# Altium footprint library Termal controller.PcbLib: 39 footprints (part 2 of 3)
Each footprint in its own frame and in the unit in brackets; x right, y up, seen from the top. Pads: shape width x height; smd on the part's side, far side on the other; paste and mask are expansions set on the pad; w line width, h text height; cw(c..) or ccw(c..) is an arc to the next point about the centre after c.
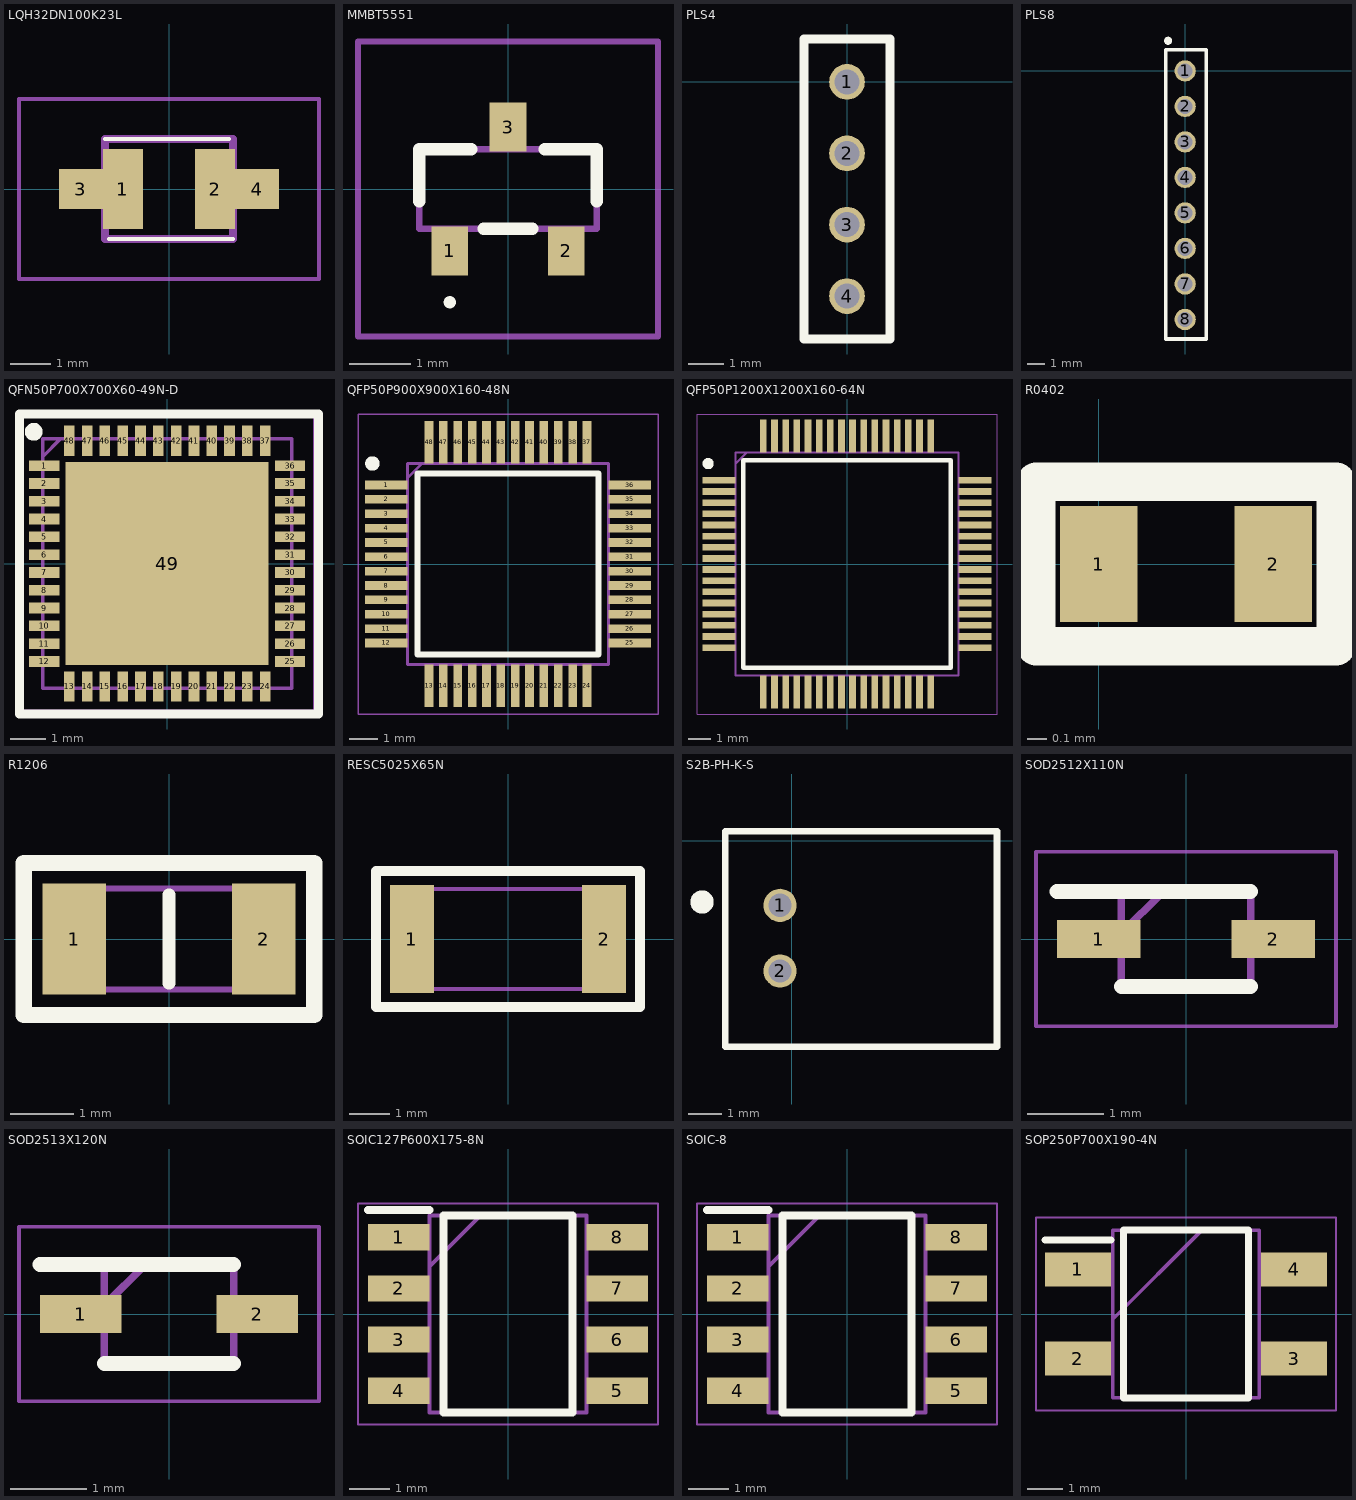
[diagram p1: the footprints below, top view; thin cyan lines are the x and y axes]

## LQH32DN100K23L [mm]
pads (4):
  rect 1x2 smd: 1(-1.15,0) 2(1.15,0)
  rect 1.1x1 smd: 3(-2.2,0) 4(2.2,0)
Top Overlay:
  lines w0.1: -1.6,1.25 1.5,1.25 ; -1.5,-1.25 1.6,-1.25
Mechanical 13:
  lines w0.2: -1.6,-1.25 -1.6,1.25 1.6,1.25 1.6,-1.25 -1.6,-1.25
Mechanical 15:
  lines w0.1: -3.75,-2.25 -3.75,2.25 3.75,2.25 3.75,-2.25 -3.75,-2.25
3D body "LQH32MN151J23L.stp": height 2.2, standoff 0, extent -1.6,-1.25 1.6,1.25

## MMBT5551 [mm]
pads (3):
  rect 0.6x0.8 smd: 1(-0.95,-1.01) 2(0.95,-1.01) 3(0,1.01)
Top Overlay:
  lines w0.1: -0.95,-1.9 ccw(c-0.95,-1.85) -0.95,-1.8 ccw(c-0.95,-1.85) -0.95,-1.9
  lines w0.2: -1.45,-0.2 -1.45,0.65 -0.6,0.65 ; -0.4,-0.65 0.4,-0.65 ; 0.6,0.65 1.45,0.65 1.45,-0.2
Mechanical 13:
  lines w0.1: -1.45,-0.65 -1.45,0.65 1.45,0.65 1.45,-0.65 -1.45,-0.65
Mechanical 15:
  lines w0.1: -2.45,-2.41 -2.45,2.41 2.45,2.41 2.45,-2.41 -2.45,-2.41
3D body "MMBT5551.stp": height 1.25, standoff 0, extent -1.45,-1.35 1.45,1.35

## PLS4 [mm]
pads (4):
  round 1 hole 0.7: 1(0,0) 2(0,-2) 3(0,-4) 4(0,-6)
Top Overlay:
  lines w0.254: -1.2,-7.2 1.2,-7.2 1.2,1.2 -1.2,1.2 -1.2,-7.2
3D body "User Library-pls2-4_asm.STEP": height 6, standoff -2.8, extent -1,-7 1,1

## PLS8 [mm]
height 0.6
pads (8):
  round 1.2 hole 0.85: 1(0,0) 2(0,-2) 3(0,-4) 4(0,-6) 5(0,-8) 6(0,-10) 7(0,-12) 8(0,-14)
Top Overlay:
  lines w0.2: -1.1,-15.1 -1.1,1.2 1.2,1.2 1.2,-15.1 -1.1,-15.1
  lines w0.254: -0.862,1.718 ccw(c-0.96,1.697) -0.86,1.697
3D body "User Library-pls2-8_asm.STEP": height 6.3, standoff -2.5, extent -0.95,-14.95 1.05,1.05

## QFN50P700X700X60-49N-D [mm]
pads (49):
  rect 0.85x0.3 smd: 1(-3.45,2.75) 2(-3.45,2.25) 3(-3.45,1.75) 4(-3.45,1.25) 5(-3.45,0.75) 6(-3.45,0.25) 7(-3.45,-0.25) 8(-3.45,-0.75) 9(-3.45,-1.25) 10(-3.45,-1.75) 11(-3.45,-2.25) 12(-3.45,-2.75) 25(3.45,-2.75) 26(3.45,-2.25) 27(3.45,-1.75) 28(3.45,-1.25) 29(3.45,-0.75) 30(3.45,-0.25) 31(3.45,0.25) 32(3.45,0.75) 33(3.45,1.25) 34(3.45,1.75) 35(3.45,2.25) 36(3.45,2.75)
  rect 0.3x0.85 smd: 13(-2.75,-3.45) 14(-2.25,-3.45) 15(-1.75,-3.45) 16(-1.25,-3.45) 17(-0.75,-3.45) 18(-0.25,-3.45) 19(0.25,-3.45) 20(0.75,-3.45) 21(1.25,-3.45) 22(1.75,-3.45) 23(2.25,-3.45) 24(2.75,-3.45) 37(2.75,3.45) 38(2.25,3.45) 39(1.75,3.45) 40(1.25,3.45) 41(0.75,3.45) 42(0.25,3.45) 43(-0.25,3.45) 44(-0.75,3.45) 45(-1.25,3.45) 46(-1.75,3.45) 47(-2.25,3.45) 48(-2.75,3.45)
  rect 5.7x5.7 smd: 49(0,0)
Top Overlay:
  circle w0.25: c-3.75,3.7 r0.125
  lines w0.254: -4.15,-4.225 4.25,-4.225 4.25,4.2 -4.15,4.2 -4.15,-4.225
Mechanical 13:
  lines w0.1: -3.5,3 -3,3.5 ; -3.5,-3.5 -3.5,3.5 3.5,3.5 3.5,-3.5 -3.5,-3.5
Mechanical 15:
  lines w0.05: -4.125,-4.125 -4.125,4.125 4.125,4.125 4.125,-4.125 -4.125,-4.125
3D body "STM32F411CEU6.stp": height 0.6, standoff 0, extent -3.55,-3.55 3.55,3.55

## QFP50P900X900X160-48N [mm]
pads (48):
  rect 1.475x0.3 smd: 1(-4.238,2.75) 2(-4.238,2.25) 3(-4.238,1.75) 4(-4.238,1.25) 5(-4.238,0.75) 6(-4.238,0.25) 7(-4.238,-0.25) 8(-4.238,-0.75) 9(-4.238,-1.25) 10(-4.238,-1.75) 11(-4.238,-2.25) 12(-4.238,-2.75) 25(4.238,-2.75) 26(4.238,-2.25) 27(4.238,-1.75) 28(4.238,-1.25) 29(4.238,-0.75) 30(4.238,-0.25) 31(4.238,0.25) 32(4.238,0.75) 33(4.238,1.25) 34(4.238,1.75) 35(4.238,2.25) 36(4.238,2.75)
  rect 0.3x1.475 smd: 13(-2.75,-4.238) 14(-2.25,-4.238) 15(-1.75,-4.238) 16(-1.25,-4.238) 17(-0.75,-4.238) 18(-0.25,-4.238) 19(0.25,-4.238) 20(0.75,-4.238) 21(1.25,-4.238) 22(1.75,-4.238) 23(2.25,-4.238) 24(2.75,-4.238) 37(2.75,4.238) 38(2.25,4.238) 39(1.75,4.238) 40(1.25,4.238) 41(0.75,4.238) 42(0.25,4.238) 43(-0.25,4.238) 44(-0.75,4.238) 45(-1.25,4.238) 46(-1.75,4.238) 47(-2.25,4.238) 48(-2.75,4.238)
Top Overlay:
  circle w0.25: c-4.725,3.5 r0.125
  lines w0.2: -3.15,-3.15 3.15,-3.15 3.15,3.15 -3.15,3.15 -3.15,-3.15
Mechanical 13:
  lines w0.1: -3.5,3 -3,3.5 ; -3.5,-3.5 3.5,-3.5 3.5,3.5 -3.5,3.5 -3.5,-3.5
Mechanical 15:
  lines w0.05: -5.225,-5.225 5.225,-5.225 5.225,5.225 -5.225,5.225 -5.225,-5.225
3D body "STM32F103C6T6.stp": height 1.6, standoff 0, extent -4.497,-4.497 4.497,4.497

## QFP50P1200X1200X160-64N [mm]
pads (64):
  rect 1.475x0.3 smd: 1(-5.738,3.75) 2(-5.738,3.25) 3(-5.738,2.75) 4(-5.738,2.25) 5(-5.738,1.75) 6(-5.738,1.25) 7(-5.738,0.75) 8(-5.738,0.25) 9(-5.738,-0.25) 10(-5.738,-0.75) 11(-5.738,-1.25) 12(-5.738,-1.75) 13(-5.738,-2.25) 14(-5.738,-2.75) 15(-5.738,-3.25) 16(-5.738,-3.75) 33(5.738,-3.75) 34(5.738,-3.25) 35(5.738,-2.75) 36(5.738,-2.25) 37(5.738,-1.75) 38(5.738,-1.25) 39(5.738,-0.75) 40(5.738,-0.25) 41(5.738,0.25) 42(5.738,0.75) 43(5.738,1.25) 44(5.738,1.75) 45(5.738,2.25) 46(5.738,2.75) 47(5.738,3.25) 48(5.738,3.75)
  rect 0.3x1.475 smd: 17(-3.75,-5.738) 18(-3.25,-5.738) 19(-2.75,-5.738) 20(-2.25,-5.738) 21(-1.75,-5.738) 22(-1.25,-5.738) 23(-0.75,-5.738) 24(-0.25,-5.738) 25(0.25,-5.738) 26(0.75,-5.738) 27(1.25,-5.738) 28(1.75,-5.738) 29(2.25,-5.738) 30(2.75,-5.738) 31(3.25,-5.738) 32(3.75,-5.738) 49(3.75,5.738) 50(3.25,5.738) 51(2.75,5.738) 52(2.25,5.738) 53(1.75,5.738) 54(1.25,5.738) 55(0.75,5.738) 56(0.25,5.738) 57(-0.25,5.738) 58(-0.75,5.738) 59(-1.25,5.738) 60(-1.75,5.738) 61(-2.25,5.738) 62(-2.75,5.738) 63(-3.25,5.738) 64(-3.75,5.738)
Top Overlay:
  circle w0.25: c-6.225,4.5 r0.125
  lines w0.2: -4.65,-4.65 -4.65,4.65 4.65,4.65 4.65,-4.65 -4.65,-4.65
Mechanical 13:
  lines w0.1: -5,4.5 -4.5,5 ; -5,-5 -5,5 5,5 5,-5 -5,-5
Mechanical 15:
  lines w0.05: -6.725,-6.725 -6.725,6.725 6.725,6.725 6.725,-6.725 -6.725,-6.725
3D body "STM32F103RBT6.stp": height 1.6, standoff 0, extent -6,-6 6,6

## R0402 [mm]
pads (2):
  rect 0.4x0.6 smd: 1(0,0) 2(0.9,0)
Top Overlay:
  lines w0.2: -0.325,-0.425 -0.325,0.425 1.225,0.425 1.225,-0.425 -0.325,-0.425
3D body "User Library-RESC1005X___.step": height 0.3, standoff 0, extent -0.05,-0.25 0.95,0.25

## R1206 [mm]
pads (2):
  rect 1x1.75 smd: 1(-1.5,0) 2(1.5,0)
Top Overlay:
  lines w0.2: 0,-0.7 0,0.7
  lines w0.254: -2.3,-1.2 2.3,-1.2 2.3,1.2 -2.3,1.2 -2.3,-1.2
Mechanical 13:
  lines w0.1: -1.55,-0.8 -1.55,0.8 1.55,0.8 1.55,-0.8 -1.55,-0.8
Mechanical 15:
  lines w0.05: -2.25,-1.15 -2.25,1.15 2.25,1.15 2.25,-1.15 -2.25,-1.15
3D body "RC1206JR-071K2L.stp": height 0.65, standoff 0, extent -1.55,-0.8 1.55,0.8

## RESC5025X65N [mm]
pads (2):
  rect 1.1x2.7 smd: 1(-2.4,0) 2(2.4,0)
Top Overlay:
  lines w0.254: -3.3,-1.7 3.3,-1.7 3.3,1.7 -3.3,1.7 -3.3,-1.7
Mechanical 13:
  lines w0.1: -2.5,-1.25 2.5,-1.25 2.5,1.25 -2.5,1.25 -2.5,-1.25
Mechanical 15:
  lines w0.05: -3.2,-1.6 3.2,-1.6 3.2,1.6 -3.2,1.6 -3.2,-1.6
3D body "CRGS2010J10R.stp": height 0.65, standoff 0, extent -2.5,-1.25 2.5,1.25

## S2B-PH-K-S [mm]
height 0.6
pads (2):
  round 1 hole 0.7: 1(-0.35,-1.95) 2(-0.35,-3.925)
Top Overlay:
  circle w0.4: c-2.7,-1.85 r0.15
  lines w0.2: -2,-6.2 6.175,-6.2 6.175,0.275 -2,0.275 -2,-6.2
3D body "S2B-PH-K-S.STEP": height 4.9, standoff -3.3, extent -1.7,-5.9 5.9,0

## SOD2512X110N [mm]
pads (2):
  rect 1.1x0.5 smd: 1(-1.15,0) 2(1.15,0)
Top Overlay:
  lines w0.2: -1.7,0.625 0.85,0.625 ; -0.85,-0.625 0.85,-0.625
Mechanical 13:
  lines w0.1: -0.85,0.075 -0.3,0.625 ; -0.85,-0.625 0.85,-0.625 0.85,0.625 -0.85,0.625 -0.85,-0.625
Mechanical 15:
  lines w0.05: -1.975,-1.15 1.975,-1.15 1.975,1.15 -1.975,1.15 -1.975,-1.15
3D body "BZX384-C5V6.stp": height 0.93, standoff 0, extent -1.244,-0.623 1.245,0.627

## SOD2513X120N [mm]
pads (2):
  rect 1.075x0.5 smd: 1(-1.162,0) 2(1.162,0)
Top Overlay:
  lines w0.2: -1.7,0.65 0.85,0.65 ; -0.85,-0.65 0.85,-0.65
Mechanical 13:
  lines w0.1: -0.85,0.112 -0.312,0.65 ; -0.85,-0.65 0.85,-0.65 0.85,0.65 -0.85,0.65 -0.85,-0.65
Mechanical 15:
  lines w0.05: -1.975,-1.15 1.975,-1.15 1.975,1.15 -1.975,1.15 -1.975,-1.15
3D body "BAT42WS-7-F.stp": height 1.11, standoff 0, extent -1.259,-0.65 1.259,0.65

## SOIC127P600X175-8N [mm]
pads (8):
  rect 1.525x0.65 smd: 1(-2.712,1.905) 2(-2.712,0.635) 3(-2.712,-0.635) 4(-2.712,-1.905) 5(2.712,-1.905) 6(2.712,-0.635) 7(2.712,0.635) 8(2.712,1.905)
Top Overlay:
  lines w0.2: -3.475,2.58 -1.95,2.58 ; -1.6,-2.45 1.6,-2.45 1.6,2.45 -1.6,2.45 -1.6,-2.45
Mechanical 13:
  lines w0.1: -1.95,1.18 -0.68,2.45 ; -1.95,-2.45 1.95,-2.45 1.95,2.45 -1.95,2.45 -1.95,-2.45
Mechanical 15:
  lines w0.05: -3.725,-2.75 3.725,-2.75 3.725,2.75 -3.725,2.75 -3.725,-2.75
3D body "MAX31855KASA+.stp": height 1.67, standoff -0.01, extent -3,-2.45 3,2.45

## SOIC-8 [mm]
pads (8):
  rect 1.525x0.65 smd: 1(-2.712,1.905) 2(-2.712,0.635) 3(-2.712,-0.635) 4(-2.712,-1.905) 5(2.712,-1.905) 6(2.712,-0.635) 7(2.712,0.635) 8(2.712,1.905)
Top Overlay:
  lines w0.2: -3.475,2.58 -1.95,2.58 ; -1.6,-2.45 1.6,-2.45 1.6,2.45 -1.6,2.45 -1.6,-2.45
Mechanical 13:
  lines w0.1: -1.95,1.18 -0.68,2.45 ; -1.95,-2.45 1.95,-2.45 1.95,2.45 -1.95,2.45 -1.95,-2.45
Mechanical 15:
  lines w0.05: -3.725,-2.75 3.725,-2.75 3.725,2.75 -3.725,2.75 -3.725,-2.75
3D body "MAX31855KASA+T.stp": height 1.75, standoff 0, extent -3,-2.45 3,2.45

## SOP250P700X190-4N [mm]
pads (4):
  rect 1.85x0.95 smd: 1(-3.025,1.25) 2(-3.025,-1.25) 3(3.025,-1.25) 4(3.025,1.25)
Top Overlay:
  lines w0.2: -3.95,2.075 -2.1,2.075 ; -1.75,-2.35 1.75,-2.35 1.75,2.35 -1.75,2.35 -1.75,-2.35
Mechanical 13:
  lines w0.1: -2.05,-0.15 0.45,2.35 ; -2.05,-2.35 2.05,-2.35 2.05,2.35 -2.05,2.35 -2.05,-2.35
Mechanical 15:
  lines w0.05: -4.2,-2.7 4.2,-2.7 4.2,2.7 -4.2,2.7 -4.2,-2.7
3D body "MB6S.stp": height 1.9, standoff 0, extent -3.5,-2.35 3.5,2.35